# Altium footprint library PCB1.PcbLib: 23 footprints (part 1 of 2)
Each footprint in its own frame and in the unit in brackets; x right, y up, seen from the top. Pads: shape width x height; smd on the part's side, far side on the other; paste and mask are expansions set on the pad; w line width, h text height; cw(c..) or ccw(c..) is an arc to the next point about the centre after c.
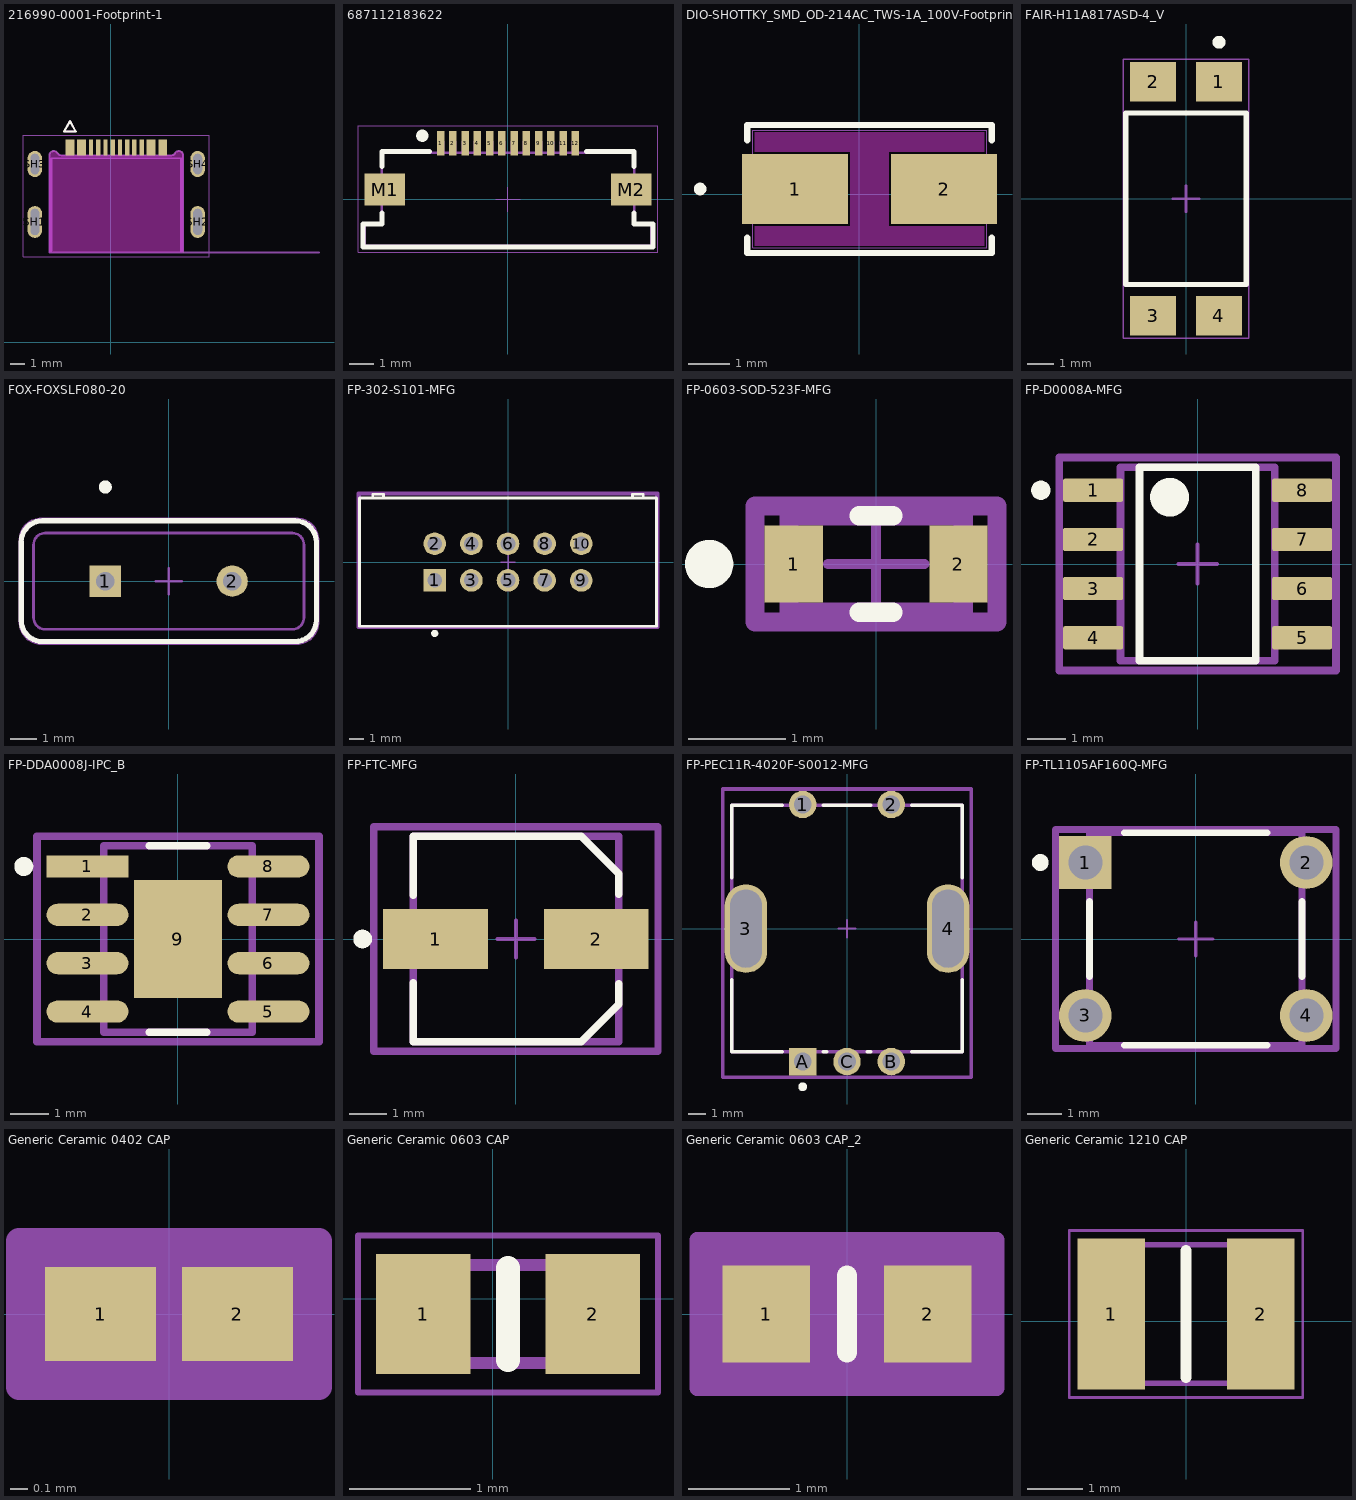
[diagram p0: the footprints below, top view; thin cyan lines are the x and y axes]

## 216990-0001-Footprint-1 [mm]
pads (16):
  rect 0.598x1.1 smd mask+0.064: A1_B12(-2.819,13.473) A4_B9(-2.019,13.473) B1_A12(3.581,13.473) B4_A9(2.781,13.473)
  rect 0.298x1.1 smd mask+0.064: A5(-0.869,13.473) A6(0.131,13.473) A7(0.631,13.473) A8(1.631,13.473) B5(2.131,13.473) B6(1.131,13.473) B7(-0.369,13.473) B8(-1.369,13.473)
  oval 1x2.2 hole 0.6 slot 1.8 at 90 deg mask+0.064: SH1(-5.239,8.323) SH2(6.001,8.323)
  oval 1x1.8 hole 0.6 slot 1.4 at 90 deg mask+0.064: SH3(-5.239,12.323) SH4(6.001,12.323)
Top Overlay:
  lines w0.15: -3.219,14.573 -2.419,14.573 -2.819,15.273 -3.219,14.573
Keep-Out Layer:
  board cut-out: 5.001,12.923 5.001,6.223 -4.239,6.223 -4.239,12.923 -4.238,12.949 -4.234,12.975 -4.229,13.001 -4.221,13.026 -4.211,13.05 -4.199,13.073 -4.185,13.095 -4.169,13.116 -4.151,13.135 -4.132,13.153 -4.111,13.169 -4.089,13.183 -4.066,13.195 -4.042,13.205 -4.017,13.213 -3.991,13.218 -3.965,13.222 -3.939,13.223 -3.913,13.222 -3.887,13.218 -3.861,13.213 -3.836,13.205 -3.812,13.195 -3.789,13.183 -3.767,13.169 -3.746,13.153 -3.727,13.135 -3.709,13.116 -3.693,13.095 -3.679,13.073 -3.674,13.064 -3.668,13.055 -3.662,13.047 -3.656,13.038 -3.649,13.03 -3.642,13.022 -3.635,13.015 -3.628,13.007 -3.62,13 -3.612,12.993 -3.604,12.987 -3.596,12.98 -3.587,12.974 -3.578,12.969 -3.569,12.963 -3.56,12.958 -3.551,12.953 -3.541,12.949 -3.532,12.945 -3.522,12.941 -3.512,12.938 -3.502,12.935 -3.492,12.932 -3.482,12.93 -3.471,12.928 -3.461,12.926 -3.451,12.925 -3.44,12.924 -3.43,12.923 -3.419,12.923 4.181,12.923 4.192,12.923 4.202,12.924 4.213,12.925 4.223,12.926 4.233,12.928 4.244,12.93 4.254,12.932 4.264,12.935 4.274,12.938 4.284,12.941 4.294,12.945 4.303,12.949 4.313,12.953 4.322,12.958 4.331,12.963 4.34,12.969 4.349,12.974 4.358,12.98 4.366,12.987 4.374,12.993 4.382,13 4.39,13.007 4.397,13.015 4.404,13.022 4.411,13.03 4.418,13.038 4.424,13.047 4.43,13.055 4.436,13.064 4.441,13.073 4.455,13.095 4.471,13.116 4.489,13.135 4.508,13.153 4.529,13.169 4.551,13.183 4.574,13.195 4.598,13.205 4.623,13.213 4.649,13.218 4.675,13.222 4.701,13.223 4.727,13.222 4.753,13.218 4.779,13.213 4.804,13.205 4.828,13.195 4.851,13.183 4.873,13.169 4.894,13.153 4.913,13.135 4.931,13.116 4.947,13.095 4.961,13.073 4.973,13.05 4.983,13.026 4.991,13.001 4.996,12.975 5,12.949
Mechanical 13:
  lines w0.13: 14.381,6.223 5.001,6.223 ; -4.089,6.223 4.851,6.223 ; -4.089,6.223 -4.089,12.723 4.851,12.723 4.851,6.223 ; -4.089,6.223 -4.239,6.223 -4.239,12.923 cw(c-3.939,12.923) -3.679,13.073 ccw(c-3.419,13.223) -3.419,12.923 4.181,12.923 ccw(c4.181,13.223) 4.441,13.073 cw(c4.701,12.923) 5.001,12.923 5.001,6.223 ; 4.851,6.223 5.001,6.223 ; -3.219,14.573 -2.419,14.573 -2.819,15.273 -3.219,14.573
  text "PCB Edge" at 6.881,6.323 h0.76
Mechanical 15:
  lines w0.01: -6.039,5.923 -6.039,14.323 6.801,14.323 6.801,5.923 -6.039,5.923
3D body "216990-0001.stp": height 1.08, standoff -2.1, extent -5.389,6.179 6.151,13.379

## 687112183622 [mm]
pads (14):
  rect 0.3x1 smd: 1(-2.75,2.3) 2(-2.25,2.3) 3(-1.75,2.3) 4(-1.25,2.3) 5(-0.75,2.3) 6(-0.25,2.3) 7(0.25,2.3) 8(0.75,2.3) 9(1.25,2.3) 10(1.75,2.3) 11(2.25,2.3) 12(2.75,2.3)
  rect 1.65x1.3 smd: M1(-5.025,0.4) M2(5.025,0.4)
Top Overlay:
  circle w0.25: c-3.5,2.6 r0.125
  lines w0.2: -5.15,-0.55 -5.15,-1 -5.925,-1 -5.925,-1.95 5.925,-1.95 5.925,-1 5.15,-1 5.15,-0.55 ; -5.15,1.35 -5.15,1.95 -3.2,1.95 ; 3.2,1.95 5.15,1.95 5.15,1.35
Top 3D Body:
  lines w0.1: -2.85,1.9 -2.85,2.35 -2.65,2.35 -2.65,1.9 ; -2.35,1.9 -2.35,2.35 -2.15,2.35 -2.15,1.9 ; -1.85,1.9 -1.85,2.35 -1.65,2.35 -1.65,1.9 ; -1.35,1.9 -1.35,2.35 -1.15,2.35 -1.15,1.9 ; -0.85,1.9 -0.85,2.35 -0.65,2.35 -0.65,1.9 ; -0.35,1.9 -0.35,2.35 -0.15,2.35 -0.15,1.9 ; 0.15,1.9 0.15,2.35 0.35,2.35 0.35,1.9 ; 0.65,1.9 0.65,2.35 0.85,2.35 0.85,1.9 ; 1.15,1.9 1.15,2.35 1.35,2.35 1.35,1.9 ; 1.65,1.9 1.65,2.35 1.85,2.35 1.85,1.9 ; 2.15,1.9 2.15,2.35 2.35,2.35 2.35,1.9 ; 2.65,1.9 2.65,2.35 2.85,2.35 2.85,1.9 ; -5.85,-1.9 5.85,-1.9 5.85,-1 5.15,-1 5.15,1.9 -5.15,1.9 -5.15,-1 -5.85,-1 -5.85,-1.9
Top Courtyard:
  lines w0.05: -0.5,0 0.5,0 ; 0,-0.5 0,0.5 ; -6.125,-2.15 -6.125,3 6.125,3 6.125,-2.15 -6.125,-2.15
Top Designator:
  text ".Designator" at -3.809,-0.254 h0.76
Top Component Outline:
  lines w0.1: -2.85,1.9 -2.85,2.35 -2.65,2.35 -2.65,1.9 ; -2.35,1.9 -2.35,2.35 -2.15,2.35 -2.15,1.9 ; -1.85,1.9 -1.85,2.35 -1.65,2.35 -1.65,1.9 ; -1.35,1.9 -1.35,2.35 -1.15,2.35 -1.15,1.9 ; -0.85,1.9 -0.85,2.35 -0.65,2.35 -0.65,1.9 ; -0.35,1.9 -0.35,2.35 -0.15,2.35 -0.15,1.9 ; 0.15,1.9 0.15,2.35 0.35,2.35 0.35,1.9 ; 0.65,1.9 0.65,2.35 0.85,2.35 0.85,1.9 ; 1.15,1.9 1.15,2.35 1.35,2.35 1.35,1.9 ; 1.65,1.9 1.65,2.35 1.85,2.35 1.85,1.9 ; 2.15,1.9 2.15,2.35 2.35,2.35 2.35,1.9 ; 2.65,1.9 2.65,2.35 2.85,2.35 2.85,1.9 ; -5.85,-1.9 -5.85,-1 -5.15,-1 -5.15,1.9 5.15,1.9 5.15,-1 5.85,-1 5.85,-1.9 -5.85,-1.9
3D body "687112183622.stp": height 1.28, standoff -0.01, extent -5.85,-1.9 5.85,2.35

## DIO-SHOTTKY_SMD_OD-214AC_TWS-1A_100V-Footprint-1 [mil]
pads (2):
  rect 101x67 smd paste+0 mask+0: 1(-61,5) 2(81,5)
Top Layer keep-out:
  region: -99.5,-49 -99.5,-30.5 119.5,-30.5 119.5,-49
  region: -99.5,40.5 -99.5,59 119.5,59 119.5,40.5
  region: -8.5,-30.5 -8.5,40.5 28.5,40.5 28.5,-30.5
Top Overlay:
  circle w6: c-151.5,5 r3
  lines w6: -106.5,-41.6 -106.5,-56 126.5,-56 126.5,-41.6 ; -106.5,51.6 -106.5,66 126.5,66 126.5,51.6
Keep-Out Layer:
  region: -8.5,-30.5 -8.5,40.5 28.5,40.5 28.5,-30.5
Mechanical 13:
  circle w0: c-81.5,5 r3
  lines w1: -101.5,-51 -101.5,61 121.5,61 121.5,-51 -101.5,-51
3D body "XTAL_SS110_TWS.step": height 117.99, standoff 0, extent -101.5,-50.98 121.5,60.98

## FAIR-H11A817ASD-4_V [mm]
pads (4):
  rect 1.78x1.525 smd: 1(1.27,4.507) 2(-1.27,4.507) 3(-1.27,-4.507) 4(1.27,-4.507)
Top Overlay:
  circle w0.25: c1.27,6.032 r0.125
  lines w0.2: -2.32,-3.303 2.32,-3.303 2.32,3.303 -2.32,3.303 -2.32,-3.303
Mechanical 13:
  lines w0.1: -2.32,-3.303 -2.32,3.303 2.32,3.303 2.32,-3.303 -2.32,-3.303
Mechanical 15:
  lines w0.05: -2.42,-5.37 2.42,-5.37 2.42,5.37 -2.42,5.37 -2.42,-5.37
  lines w0.1: -0.5,0 0.5,0 ; 0,-0.5 0,0.5
3D body: height 5.59, standoff 0.51, extent -2.32,-3.303 2.32,3.303

## FOX-FOXSLF080-20 [mm]
pads (2):
  rect 1.2x1.2 hole 0.7: 1(-2.44,0)
  round 1.2 hole 0.7: 2(2.44,0)
Top Overlay:
  circle w0.25: c-2.44,3.62 r0.125
  lines w0.2: -5.675,-1.5 ccw(c-4.85,-1.5) -4.85,-2.325 4.85,-2.325 ccw(c4.85,-1.5) 5.675,-1.5 5.675,1.5 ccw(c4.85,1.5) 4.85,2.325 -4.85,2.325 ccw(c-4.85,1.5) -5.675,1.5 -5.675,-1.5 ; -5.675,-1.5 -5.675,-1.5
Mechanical 13:
  lines w0.1: -5.675,-1.5 ccw(c-4.85,-1.5) -4.85,-2.325 4.85,-2.325 ccw(c4.85,-1.5) 5.675,-1.5 5.675,1.5 ccw(c4.85,1.5) 4.85,2.325 -4.85,2.325 ccw(c-4.85,1.5) -5.675,1.5 -5.675,-1.5 ; -5.675,-1.5 -5.675,-1.5 ; -5.2,-1.4 ccw(c-4.75,-1.4) -4.75,-1.85 4.75,-1.85 ccw(c4.75,-1.4) 5.2,-1.4 5.2,1.4 ccw(c4.75,1.4) 4.75,1.85 -4.75,1.85 ccw(c-4.75,1.4) -5.2,1.4 -5.2,-1.4
Mechanical 15:
  lines w0.05: -4.85,2.425 4.85,2.425 cw(c4.9,1.55) 5.775,1.6 5.775,-1.599 cw(c4.9,-1.549) 4.869,-2.425 ; -4.831,2.425 ccw(c-4.881,1.55) -5.756,1.6 -5.756,-1.599 ccw(c-4.881,-1.549) -4.85,-2.425 4.85,-2.425
  lines w0.1: -0.5,0 0.5,0 ; 0,-0.5 0,0.5
3D body: height 1, standoff 0, extent -5.675,-2.325 5.675,2.325
3D body: height 3.6, standoff 0, extent -5.199,-1.849 5.2,1.85

## FP-302-S101-MFG [mm]
pads (10):
  rect 1.57x1.57 hole 1.02 paste-2539.97 mask+0: 1(-5.08,-1.27)
  round 1.57 hole 1.02 paste-2539.97 mask+0: 2(-5.08,1.27) 3(-2.54,-1.27) 4(-2.54,1.27) 5(0,-1.27) 6(0,1.27) 7(2.54,-1.27) 8(2.54,1.27) 9(5.08,-1.27) 10(5.08,1.27)
Top Overlay:
  circle w0.25: c-5.08,-4.945 r0.125
  lines w0.2: -10.3,-4.45 10.3,-4.45 10.3,4.45 -10.3,4.45 -10.3,-4.45 ; -9.375,4.45 -8.625,4.45 -8.625,4.7 -9.375,4.7 -9.375,4.45 ; 8.625,4.45 9.375,4.45 9.375,4.7 8.625,4.7 8.625,4.45
Top 3D Body:
  lines w0.2: -10.3,-4.45 10.3,-4.45 10.3,4.7 -10.3,4.7 -10.3,-4.45
Top Courtyard:
  lines w0.2: -10.4,-4.55 10.4,-4.55 10.4,4.8 -10.4,4.8 -10.4,-4.55
Top Assembly:
  lines w0.2: -10.4,-4.55 10.4,-4.55 10.4,4.8 -10.4,4.8 -10.4,-4.55
  text ".Designator" at 0.127,0.318 h0.76
Top Component Center:
  lines w0.1: -0.5,0 0.5,0 ; 0,-0.5 0,0.5
3D body "Conn_On_Shore_Technology_302-S101_eec.STEP": height 0.25, standoff 0, extent -10.4,-4.55 10.4,4.8

## FP-0603-SOD-523F-MFG [mm]
pads (2):
  rect 0.6x0.8 smd paste+0 mask+0: 1(-0.85,0) 2(0.85,0)
Top Overlay:
  circle w0.25: c-1.725,0 r0.125
  lines w0.2: -0.175,-0.5 0.175,-0.5 ; -0.175,0.5 0.175,0.5
Top 3D Body:
  lines w0.2: -0.9,-0.5 0.9,-0.5 0.9,0.5 -0.9,0.5 -0.9,-0.5
Top Courtyard:
  lines w0.2: -1.25,-0.6 1.25,-0.6 1.25,0.6 -1.25,0.6 -1.25,-0.6
Top Assembly:
  lines w0.2: -1.25,-0.6 1.25,-0.6 1.25,0.6 -1.25,0.6 -1.25,-0.6
  text ".Designator" at 0.127,0.193 h0.76
Top Component Center:
  lines w0.1: -0.5,0 0.5,0 ; 0,-0.5 0,0.5
3D body "Diode_Comchip_CZRU52C3V3_eec.STEP": height 0.25, standoff 0, extent -1.25,-0.6 1.25,0.6

## FP-D0008A-MFG [mm]
pads (8):
  rrect17% 1.55x0.6 smd paste+0 mask+0: 1(-2.7,1.905) 2(-2.7,0.635) 3(-2.7,-0.635) 4(-2.7,-1.905) 5(2.7,-1.905) 6(2.7,-0.635) 7(2.7,0.635) 8(2.7,1.905)
Top Overlay:
  circle w0.25: c-4.05,1.905 r0.125
  circle w0.5: c-0.725,1.725 r0.25
  lines w0.2: -1.5,-2.5 1.5,-2.5 1.5,2.5 -1.5,2.5 -1.5,-2.5
Top 3D Body:
  lines w0.2: -1.99,-2.5 1.99,-2.5 1.99,2.5 -1.99,2.5 -1.99,-2.5
Top Courtyard:
  lines w0.2: -3.575,-2.75 3.575,-2.75 3.575,2.75 -3.575,2.75 -3.575,-2.75
Top Assembly:
  lines w0.2: -3.575,-2.75 3.575,-2.75 3.575,2.75 -3.575,2.75 -3.575,-2.75
  text ".Designator" at 0.127,0.381 h0.76
Top Component Center:
  lines w0.1: -0.5,0 0.5,0 ; 0,-0.5 0,0.5
3D body "IC_Texas_Instruments_ISO7220ADR_eec.STEP": height 0.25, standoff 0, extent -3.575,-2.75 3.575,2.75

## FP-DDA0008J-IPC_B [mm]
pads (9):
  rect 2.153x0.582 smd paste+0 mask+0: 1(-2.377,1.905)
  rrect100% 2.153x0.582 smd paste+0 mask+0: 2(-2.377,0.635) 3(-2.377,-0.635) 4(-2.377,-1.905) 5(2.377,-1.905) 6(2.377,-0.635) 7(2.377,0.635) 8(2.377,1.905)
  rect 2.3x3.1 smd paste-1000 mask+0: 9(0,0)
Top Overlay:
  circle w0.25: c-4.05,1.905 r0.125
  lines w0.2: -0.75,-2.45 0.75,-2.45 ; -0.75,2.45 0.75,2.45
Top Paste:
  rectangle: -0.668,-1.068 0.668,1.068
Top 3D Body:
  lines w0.2: -1.95,-2.45 1.95,-2.45 1.95,2.45 -1.95,2.45 -1.95,-2.45
Top Courtyard:
  lines w0.2: -3.703,-2.7 3.703,-2.7 3.703,2.7 -3.703,2.7 -3.703,-2.7
Top Assembly:
  lines w0.2: -3.703,-2.7 3.703,-2.7 3.703,2.7 -3.703,2.7 -3.703,-2.7
  text ".Designator" at 0.127,0.193 h0.76
Top Component Center:
  lines w0.1: -0.5,0 0.5,0 ; 0,-0.5 0,0.5
3D body "IC_Texas_Instruments_OPA454AIDDAR_eec.STEP": height 0.25, standoff 0, extent -3.703,-2.7 3.703,2.7

## FP-FTC-MFG [mm]
pads (2):
  rect 2.8x1.6 smd paste+0 mask+0: 1(-2.15,0) 2(2.15,0)
Top Overlay:
  circle w0.25: c-4.1,0 r0.125
  lines w0.2: -2.75,-1.175 -2.75,-2.75 1.75,-2.75 2.75,-1.75 2.75,-1.2 ; -2.75,1.175 -2.75,2.75 1.75,2.75 2.75,1.75 2.75,1.2
Top 3D Body:
  lines w0.2: -2.75,-2.75 2.75,-2.75 2.75,2.75 -2.75,2.75 -2.75,-2.75
Top Courtyard:
  lines w0.2: -3.8,-3 3.8,-3 3.8,3 -3.8,3 -3.8,-3
Top Assembly:
  lines w0.2: -3.8,-3 3.8,-3 3.8,3 -3.8,3 -3.8,-3
  text ".Designator" at 0.127,0.381 h0.76
Top Component Center:
  lines w0.1: -0.5,0 0.5,0 ; 0,-0.5 0,0.5
3D body "Cap_Panasonic_EEEFT0J221AR_eec.STEP": height 0.25, standoff 0, extent -3.8,-3 3.8,3

## FP-PEC11R-4020F-S0012-MFG [mm]
pads (7):
  round 1.55 hole 1 paste-2539.97 mask+0: 1(-2.5,7) 2(2.5,7) B(2.5,-7.5) C(0,-7.5)
  rrect100% 2.4x5 hole 4.4 slot 1.8 at 0 deg paste-2539.97 mask+0: 3(-5.7,0) 4(5.7,0)
  rect 1.55x1.55 hole 1 paste-2539.97 mask+0: A(-2.5,-7.5)
Top Overlay:
  circle w0.25: c-2.5,-8.925 r0.125
  lines w0.2: -6.5,-2.875 -6.5,-6.95 -3.65,-6.95 ; -6.5,2.875 -6.5,6.95 -3.65,6.95 ; -1.35,-6.95 -1.15,-6.95 ; -1.35,6.95 1.35,6.95 ; 1.15,-6.95 1.35,-6.95 ; 3.65,-6.95 6.5,-6.95 6.5,-2.875 ; 3.65,6.95 6.5,6.95 6.5,2.875
Top 3D Body:
  lines w0.2: -6.5,-6.95 6.5,-6.95 6.5,6.95 -6.5,6.95 -6.5,-6.95
Top Courtyard:
  lines w0.2: -7,-8.375 7,-8.375 7,7.875 -7,7.875 -7,-8.375
Top Assembly:
  lines w0.2: -7,-8.375 7,-8.375 7,7.875 -7,7.875 -7,-8.375
  text ".Designator" at 0.127,0.131 h0.76
Top Component Center:
  lines w0.1: -0.5,0 0.5,0 ; 0,-0.5 0,0.5
3D body "Enc_Bourns_PEC11R-4020F-S0012_eec.STEP": height 27.3, standoff -4.41, extent -6.919,-7.55 6.919,7.05

## FP-TL1105AF160Q-MFG [mm]
pads (4):
  rect 1.55x1.55 hole 1 paste-2539.97 mask+0: 1(-3.25,2.25)
  round 1.55 hole 1 paste-2539.97 mask+0: 2(3.25,2.25) 3(-3.25,-2.25) 4(3.25,-2.25)
Top Overlay:
  circle w0.25: c-4.575,2.25 r0.125
  lines w0.2: -3.125,-1.1 -3.125,1.1 ; -2.1,-3.125 2.1,-3.125 ; -2.1,3.125 2.1,3.125 ; 3.125,-1.1 3.125,1.1
Top 3D Body:
  lines w0.2: -3.125,-3.125 3.125,-3.125 3.125,3.125 -3.125,3.125 -3.125,-3.125
Top Courtyard:
  lines w0.2: -4.125,-3.225 4.125,-3.225 4.125,3.225 -4.125,3.225 -4.125,-3.225
Top Assembly:
  lines w0.2: -4.125,-3.225 4.125,-3.225 4.125,3.225 -4.125,3.225 -4.125,-3.225
  text ".Designator" at 0.127,0.381 h0.76
Top Component Center:
  lines w0.1: -0.5,0 0.5,0 ; 0,-0.5 0,0.5
3D body "Switch_E-Switch_TL1105AF160Q_eec.STEP": height 5.25, standoff -3.7, extent -3.946,-3.003 3.946,3

## Generic Ceramic 0402 CAP [mm]
pads (2):
  rect 0.653x0.55 smd paste+0 mask+0: 1(-0.402,0) 2(0.402,0)
Mechanical 13:
  lines w0.025: -0.525,-0.275 -0.525,0.275 ; -0.525,-0.275 0.525,-0.275 ; -0.525,-0.275 -0.125,-0.275 -0.125,0.275 -0.525,0.275 ; -0.525,0.275 0.525,0.275 ; 0.525,-0.275 0.525,0.275 ; 0.525,-0.275 0.125,-0.275 0.125,0.275 0.525,0.275
Mechanical 15:
  region: 0.881,-0.427 -0.881,-0.427 -0.881,0.427 0.881,0.427
  lines w0.152: -0.881,-0.427 0.881,-0.427 0.881,0.427 -0.881,0.427 -0.881,-0.427
3D body "CAPC10555_55N_KEM.step": height 0.55, standoff 0, extent -0.525,-0.275 0.525,0.275

## Generic Ceramic 0603 CAP [mm]
pads (2):
  rect 0.78x0.99 smd: 1(-0.573,-0.127) 2(0.827,-0.127)
Top Overlay:
  lines w0.2: 0.127,-0.508 0.127,0.254
Mechanical 13:
  lines w0.1: -0.673,-0.532 0.927,-0.532 0.927,0.278 -0.673,0.278 -0.673,-0.532
Mechanical 15:
  lines w0.05: -1.113,-0.777 1.367,-0.777 1.367,0.523 -1.113,0.523 -1.113,-0.777
3D body "06035C101K4T2A.stp": height 0.9, standoff 0, extent -0.673,-0.532 0.927,0.278

## Generic Ceramic 0603 CAP_2 [mil]
pads (2):
  rect 34x38 smd paste+0 mask+0: 1(-31.5,0) 2(31.5,0)
Top Overlay:
  lines w7.87: 0,-15 0,15
Mechanical 13:
  lines w1: -34.5,-19 34.5,-19 ; -34.5,-19 -14.5,-19 -14.5,19 -34.5,19 ; -34.5,-19 -34.5,19 ; -34.5,19 34.5,19 ; 34.5,-19 34.5,19 ; 34.5,-19 14.5,-19 14.5,19 34.5,19
  lines w3.94: -31.5,-15.94 31.5,-15.94 31.5,15.94 -31.5,15.95 -31.5,-15.94
Mechanical 15:
  region: 58.5,-29 -58.5,-29 -58.5,29 58.5,29
  lines w1.97: -48.82,-25.59 48.82,-25.59 48.82,25.59 -48.82,25.59 -48.82,-25.59
  lines w6: -58.5,-29 58.5,-29 58.5,29 -58.5,29 -58.5,-29
3D body "06035C101K4T2A.stp": height 35.43, standoff 0, extent -31.49,-15.94 31.5,15.95

## Generic Ceramic 1210 CAP [mm]
pads (2):
  rect 1.22x2.72 smd: 1(-1.35,0.127) 2(1.35,0.127)
Top Overlay:
  lines w0.2: 0,-1.023 0,1.277
Mechanical 13:
  lines w0.1: -1.6,-1.123 1.6,-1.123 1.6,1.377 -1.6,1.377 -1.6,-1.123
Mechanical 15:
  lines w0.05: -2.11,-1.383 2.11,-1.383 2.11,1.637 -2.11,1.637 -2.11,-1.383
3D body "CL32B225KCJVPNE.stp": height 2.7, standoff 0, extent -1.6,-1.123 1.6,1.377